# EAGLE library part HCPL-2430 (library Mes_uC)
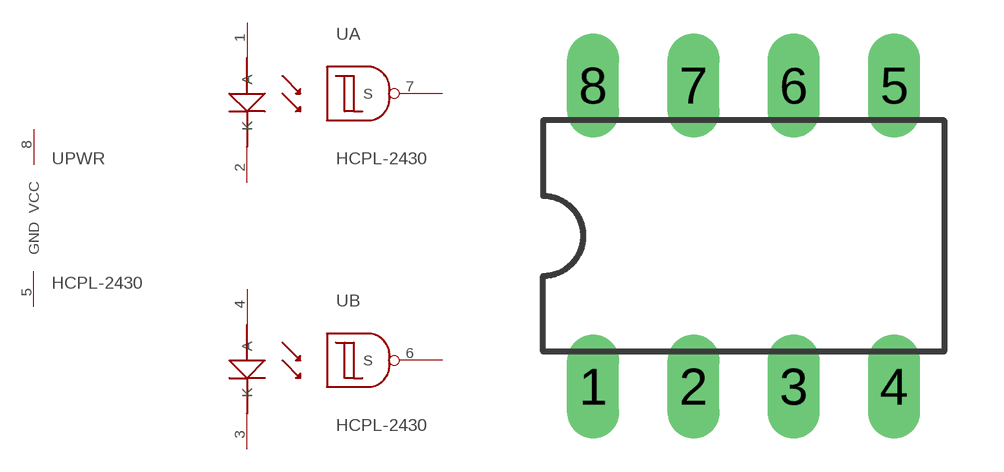
[diagram p3: symbol with the pads of DIP08; footprint DIP08]

Designator prefix U; gates A=OPTO B=OPTO PWR=PWR

## HCPL-2430  [DIP08]
1  A:A
2  A:K
3  B:K
4  B:A
5  PWR:GND  pwr
6  B:S  out
7  A:S  out
8  PWR:VCC  pwr

## Footprint DIP08 (pad centres in mm)
drill 0.813 long: 1 -3.81,-3.81; 2 -1.27,-3.81; 3 1.27,-3.81; 4 3.81,-3.81; 5 3.81,3.81; 6 1.27,3.81; 7 -1.27,3.81; 8 -3.81,3.81